# Altium schematic symbol library IC_74xx02.SchLib: 1 symbol
Pins are listed as number, name and electrical type; pins without a type are passive.

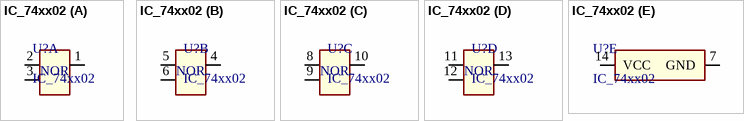
[diagram p0: symbol IC_74xx02]

## IC_74xx02
designator U?
part A pins: 1, 2, 3
part B pins: 4, 5, 6
part C pins: 8, 9, 10
part D pins: 11, 12, 13
part E pins: 7 GND, 14 VCC
part A text: NOR
part B text: NOR
part C text: NOR
part D text: NOR